# Altium schematic symbol library LVDS.SchLib: 3 symbols
Pins are listed as number, name and electrical type; pins without a type are passive.

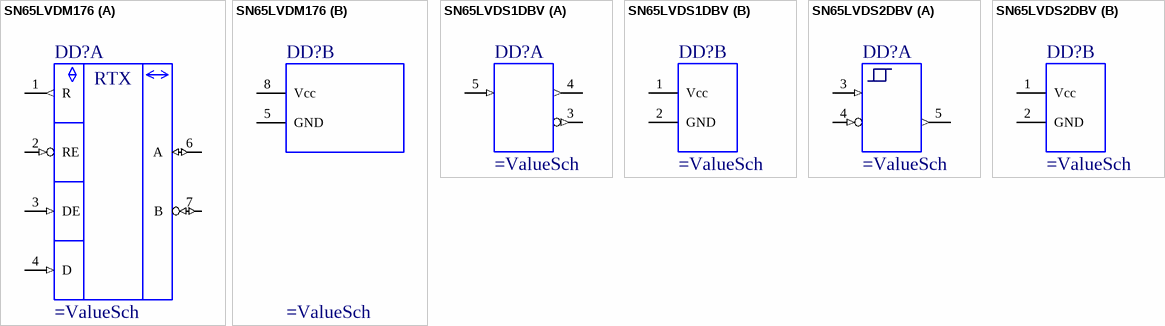
[diagram p0: symbols SN65LVDM176 to SN65LVDS2DBV]

## SN65LVDM176
designator DD?
High-speed diferential line Transceiver
part A pins: 1 R (out) "Read", 2 RE (in) "Receive enable", 3 DE (in) "Data enable", 4 D (in) "Data", 6 A (io) "Positive line", 7 B (io) "Negative line"
part B pins: 5 GND (power) "Vcc", 8 Vcc (power)
part A text: RTX

## SN65LVDS1DBV
designator DD?
LVDS Driver
part A pins: 3 Z (out) "LVDS Negative output", 4 Y (out) "LVDS Positive output", 5 D (in) "LVTTL input"
part B pins: 1 Vcc (power), 2 GND (power) "Vcc"

## SN65LVDS2DBV
designator DD?
LVDS Receiver
part A pins: 3 A (in) "LVDS Positive input", 4 B (in) "LVDS Negative input", 5 R (out) "LVTTL output"
part B pins: 1 Vcc (power), 2 GND (power) "Vcc"